# Altium schematic symbol library BC548_.SchLib: 1 symbol
Pins are listed as number, name and electrical type; pins without a type are passive.

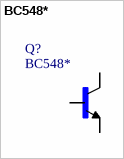
[diagram p0: symbol BC548*]

## BC548*
designator Q?
Transistor Silicon Npn Ambient Rated To D3007, Bc5; MP: BC548; MF: NXP Semiconductors; Price: 0.03 USD; Package: TO-92 NXP Semiconductors; Availability: Unavailable; Value: *
footprint TO92-EBC_BC548*(Primary)
pins: B, C, E